# Altium integrated library WCAP-PSLP_rev15a.intlib: 49 symbols (part 2 of 2)
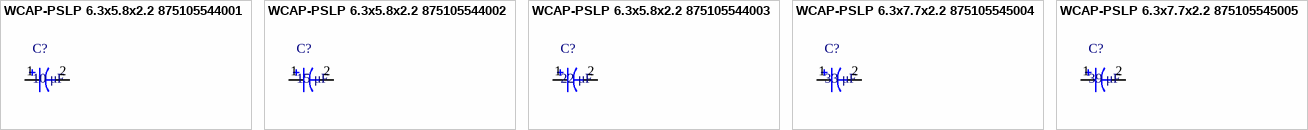
[diagram p5: symbols WCAP-PSLP 6.3x5.8x2.2 875105544001 to WCAP-PSLP 6.3x7.7x2.2 875105545005]

## WCAP-PSLP 6.3x5.8x2.2 875105544003
designator C?, comment 22 μF
WCAP-PSLP Aluminum Polymer Capacitors , 22 μF; + / - 20%; 25 V , 6,3 x 5,8; Manufacturer: Wurth Elektronik; partNo: 875105544003; E-mail: libraries@we-online.com; Characteristics: Aluminum Polymer Capacitors;Recommended soldering: Reflow;Operating temperature: –55 °C to +105 °C;Low profile SMD product series;Low ESR at high frequency range;High permissible ripple current;Load life: 2000 h @ +105 °C; ComponentLink1Description: Manufacturer; ComponentLink1URL: http://www.we-online.com; ComponentLink2Description: Datasheet; ComponentLink2URL: http://katalog.we-online.de/pbs/datasheet/875105544003.pdf; Created by: Karrer Zheng; Created Date: 5/13/2015; Capacitance: 22 μF; Application: Low voltage port filtering, appplid to high-end switching power supply, PC(desktop,laptop ),industrial computer, VGA card, server power, charger, TV, digital set-top box,DC-DC power module, game machine etc which consume large current with high speed circuit.
footprint WCAP-PSLP 6.3x5.8x2.2
pins: 1, 2

## WCAP-PSLP 6.3x7.7x2.2 875105545004
designator C?, comment 33 μF
WCAP-PSLP Aluminum Polymer Capacitors , 33 μF; + / - 20%; 25 V , 6,3 x 7,7; Manufacturer: Wurth Elektronik; partNo: 875105545004; E-mail: libraries@we-online.com; Characteristics: Aluminum Polymer Capacitors;Recommended soldering: Reflow;Operating temperature: –55 °C to +105 °C;Low profile SMD product series;Low ESR at high frequency range;High permissible ripple current;Load life: 2000 h @ +105 °C; ComponentLink1Description: Manufacturer; ComponentLink1URL: http://www.we-online.com; ComponentLink2Description: Datasheet; ComponentLink2URL: http://katalog.we-online.de/pbs/datasheet/875105545004.pdf; Created by: Karrer Zheng; Created Date: 5/13/2015; Capacitance: 33 μF; Application: Low voltage port filtering, appplid to high-end switching power supply, PC(desktop,laptop ),industrial computer, VGA card, server power, charger, TV, digital set-top box,DC-DC power module, game machine etc which consume large current with high speed circuit.
footprint WCAP-PSLP 6.3x7.7x2.2
pins: 1, 2

## WCAP-PSLP 6.3x7.7x2.2 875105545005
designator C?, comment 39 μF
WCAP-PSLP Aluminum Polymer Capacitors , 39 μF; + / - 20%; 25 V , 6,3 x 7,7; Manufacturer: Wurth Elektronik; partNo: 875105545005; E-mail: libraries@we-online.com; Characteristics: Aluminum Polymer Capacitors;Recommended soldering: Reflow;Operating temperature: –55 °C to +105 °C;Low profile SMD product series;Low ESR at high frequency range;High permissible ripple current;Load life: 2000 h @ +105 °C; ComponentLink1Description: Manufacturer; ComponentLink1URL: http://www.we-online.com; ComponentLink2Description: Datasheet; ComponentLink2URL: http://katalog.we-online.de/pbs/datasheet/875105545005.pdf; Created by: Karrer Zheng; Created Date: 5/13/2015; Capacitance: 39 μF; Application: Low voltage port filtering, appplid to high-end switching power supply, PC(desktop,laptop ),industrial computer, VGA card, server power, charger, TV, digital set-top box,DC-DC power module, game machine etc which consume large current with high speed circuit.
footprint WCAP-PSLP 6.3x7.7x2.2
pins: 1, 2